# Altium footprint library AMS_LV.PcbLib: 24 footprints (part 1 of 2)
Each footprint in its own frame and in the unit in brackets; x right, y up, seen from the top. Pads: shape width x height; smd on the part's side, far side on the other; paste and mask are expansions set on the pad; w line width, h text height; cw(c..) or ccw(c..) is an arc to the next point about the centre after c.
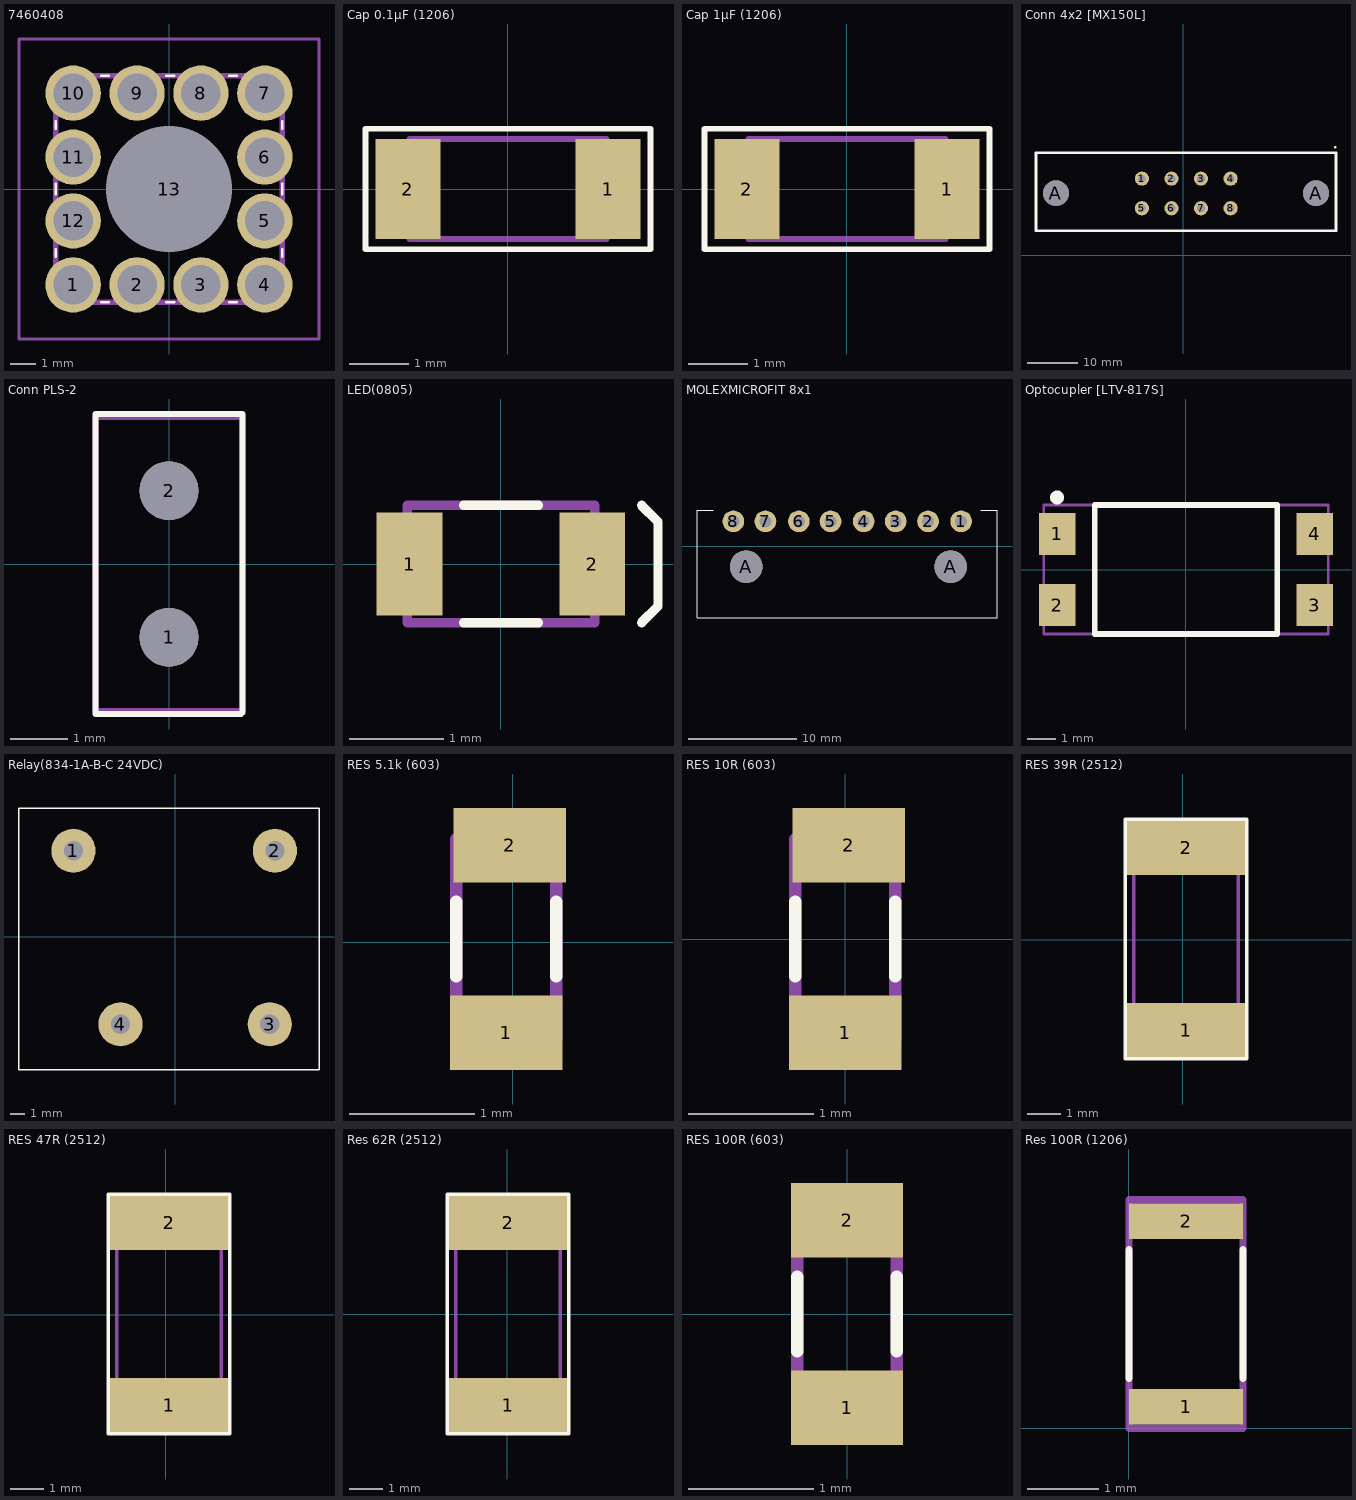
[diagram p0: the footprints below, top view; thin cyan lines are the x and y axes]

## 7460408 [mm]
pads (13):
  round 2.2 hole 1.57: 1(-3.81,-3.81) 2(-1.27,-3.81) 3(1.27,-3.81) 4(3.81,-3.81) 5(3.81,-1.27) 6(3.81,1.27) 7(3.81,3.81) 8(1.27,3.81) 9(-1.27,3.81) 10(-3.81,3.81) 11(-3.81,1.27) 12(-3.81,-1.27)
  round 2.5 hole 5 unplated: 13(0,0)
Top Overlay:
  lines w0.1: -4.5,-2.7 -4.5,-2.4 ; -4.5,-0.2 -4.5,0.2 ; -4.5,2.4 -4.5,2.7 ; -2.7,-4.5 -2.4,-4.5 ; -2.7,4.5 -2.4,4.5 ; -0.1,-4.5 0.2,-4.5 ; -0.1,4.5 0.2,4.5 ; 2.4,-4.5 2.7,-4.5 ; 2.4,4.5 2.7,4.5 ; 4.5,-2.7 4.5,-2.4 ; 4.5,-0.2 4.5,0.2 ; 4.5,2.4 4.5,2.7
Mechanical 13:
  lines w0.2: -4.5,-4.5 -4.5,4.5 4.5,4.5 4.5,-4.5 -4.5,-4.5
Mechanical 15:
  lines w0.1: -5.96,-5.96 -5.96,5.96 5.96,5.96 5.96,-5.96 -5.96,-5.96
3D body "7460408.stp": height 6.1, standoff -5, extent -4.5,-4.5 4.5,4.5

## Cap 0.1µF (1206) [mm]
pads (2):
  rect 1.1x1.7 smd: 1(1.7,0) 2(-1.7,0)
Top Overlay:
  lines w0.1: -2.425,-1.025 -2.425,1.025 2.425,1.025 2.425,-0.175 2.425,-1.025 -2.425,-1.025
Mechanical 13:
  lines w0.1: -1.675,-0.85 1.675,-0.85 1.675,0.85 -1.675,0.85 -1.675,-0.85
3D body "CAPC-1206-T1.0-BN.stp": height 1, standoff 0, extent -1.675,-0.875 1.675,0.875

## Cap 1µF (1206) [mm]
pads (2):
  rect 1.1x1.7 smd: 1(1.7,0) 2(-1.7,0)
Top Overlay:
  lines w0.1: -2.425,-1.025 2.425,-1.025 2.425,-0.175 2.425,1.025 -2.425,1.025 -2.425,-1.025
Mechanical 13:
  lines w0.1: -1.675,-0.85 -1.675,0.85 1.675,0.85 1.675,-0.85 -1.675,-0.85
3D body "CAPC-1206-T1.0-BN.stp": height 1, standoff 0, extent -1.675,-0.875 1.675,0.875

## Conn 4x2 [MX150L] [mm]
pads (10):
  round 2.8 hole 1.5: 1(-8.125,15.125) 2(-2.285,15.125) 3(3.555,15.125) 4(9.4,15.125) 5(-8.125,9.275) 6(-2.285,9.275) 7(3.555,9.275) 8(9.4,9.275)
  round 5.1 hole 5.1: A(-25.1,12.25) A(26.3,12.25)
Top Overlay:
  lines w0.5: -29.05,4.825 30.225,4.825 30.225,20.2 -29.05,20.2 -29.05,4.825 ; 30.075,21.325 30.075,21.325
3D body "194270017.stp": height 32.1, standoff -3.52, extent -28.685,-19.499 29.735,20.15

## Conn PLS-2 [mm]
pads (2):
  round 1.02 hole 1.02: 1(0,-1.27) 2(0,1.27)
Top Overlay:
  lines w0.1: -1.275,-2.6 -1.275,2.6 1.275,2.6 1.275,-2.575 1.25,-2.6 -1.275,-2.6
Mechanical 13:
  lines w0.1: -1.275,-2.55 1.275,-2.55 1.275,2.55 -1.275,2.55 -1.275,-2.55
3D body "User Library-PLS-2-1.STEP": height 5.57, standoff -5.23, extent -1.27,-2.54 1.27,2.54

## LED(0805) [mm]
pads (2):
  rect 0.7x1.1 smd: 1(-0.975,0) 2(0.975,0)
Top Overlay:
  lines w0.1: -0.4,-0.625 0.4,-0.625 ; -0.4,0.625 0.4,0.625 ; 1.5,-0.625 1.675,-0.45 1.675,0.45 1.5,0.625
Mechanical 13:
  lines w0.1: -1,-0.625 1,-0.625 1,0.625 -1,0.625 -1,-0.625
3D body "LED0805.step": height 1.1, standoff 0, extent -1.01,-0.625 1.01,0.625

## MOLEXMICROFIT 8x1 [mm]
pads (10):
  round 2 hole 1.1: 1(33.025,2.275) 2(29.975,2.275) 3(27,2.275) 4(24.05,2.275) 5(21,2.275) 6(18.075,2.275) 7(15,2.275) 8(12.05,2.275)
  round 3 hole 3: A(13.225,-1.9) A(32.05,-1.9)
Top Overlay:
  lines w0.1: 10.175,3.3 8.7,3.3 8.7,-6.6 36.325,-6.6 36.325,3.3 34.85,3.3
3D body "436500800.stp": height 5.64, standoff -3.27, extent 8.705,-6.6 36.345,3.3

## Optocupler [LTV-817S] [mm]
pads (4):
  rect 1.3x1.5 smd: 1(-4.6,1.27) 2(-4.6,-1.27) 3(4.6,-1.27) 4(4.6,1.27)
Top Overlay:
  circle w0.25: c-4.6,2.57 r0.125
  lines w0.2: -3.25,-2.3 3.25,-2.3 3.25,2.3 -3.25,2.3 -3.25,-2.3
Mechanical 13:
  lines w0.1: -5.075,-2.3 5.075,-2.3 5.075,2.3 -5.075,2.3 -5.075,-2.3 ; -3.25,-2.3 3.25,-2.3 3.25,2.3 -3.25,2.3 -3.25,-2.3
3D body "SOP254P1020X385-4L.step": height 3.85, standoff 0, extent -5.08,-2.3 5.08,2.3

## Relay(834-1A-B-C 24VDC) [mm]
pads (4):
  round 3 hole 1.3: 1(-6.925,5.85) 2(6.775,5.85) 3(6.425,-5.95) 4(-3.725,-5.95)
Top Overlay:
  lines w0.1: -10.625,-9.05 -10.625,8.75 9.775,8.75 9.775,-9.05 -10.625,-9.05
3D body: height 10.8, standoff 0, extent -10.575,-9.05 9.725,8.75

## RES 5.1k (603) [mm]
pads (2):
  rect 0.9x0.6 smd: 1(-0.05,-0.725) 2(-0.025,0.775)
Top Overlay:
  lines w0.1: -0.45,-0.275 -0.45,0.325 ; 0.35,-0.275 0.35,0.325
Mechanical 13:
  lines w0.1: -0.45,-0.775 0.35,-0.775 0.35,0.825 -0.45,0.825 -0.45,-0.775
3D body "cr0603-fx-3000elf.stp": height 0.45, standoff 0, extent -0.45,-0.775 0.35,0.825

## RES 10R (603) [mm]
pads (2):
  rect 0.9x0.6 smd: 1(0,-0.75) 2(0.025,0.75)
Top Overlay:
  lines w0.1: -0.4,-0.3 -0.4,0.3 ; 0.4,-0.3 0.4,0.3
Mechanical 13:
  lines w0.1: -0.4,-0.8 0.4,-0.8 0.4,0.8 -0.4,0.8 -0.4,-0.8
3D body "cr0603-fx-3000elf.stp": height 0.45, standoff 0, extent -0.4,-0.8 0.4,0.8

## RES 39R (2512) [mm]
pads (2):
  rect 3.5x1.6 smd: 1(0.1,-2.675) 2(0.1,2.725)
Top Overlay:
  lines w0.1: -1.7,-3.525 1.9,-3.525 1.9,3.575 1.037,3.575 -0.687,3.575 -1.7,3.575 -1.7,-3.525
Mechanical 13:
  lines w0.1: -1.45,3.175 -1.45,3.175 ; -1.45,3.175 1.65,3.175 1.65,-3.125 -1.45,-3.125 -1.45,3.175
3D body "crm2512-jw-201elf.stp": height 0.65, standoff 0.05, extent -1.45,-3.125 1.65,3.175

## RES 47R (2512) [mm]
pads (2):
  rect 3.5x1.6 smd: 1(0.1,-2.675) 2(0.1,2.725)
Top Overlay:
  lines w0.1: -1.7,-3.525 1.9,-3.525 1.9,3.575 1.037,3.575 -0.687,3.575 -1.7,3.575 -1.7,-3.525
Mechanical 13:
  lines w0.1: -1.45,3.175 -1.45,3.175 ; -1.45,3.175 1.65,3.175 1.65,-3.125 -1.45,-3.125 -1.45,3.175
3D body "crm2512-jw-201elf.stp": height 0.65, standoff 0.05, extent -1.45,-3.125 1.65,3.175

## Res 62R (2512) [mm]
pads (2):
  rect 3.5x1.6 smd: 1(0.025,-2.7) 2(0.025,2.7)
Top Overlay:
  lines w0.1: -1.775,-3.55 1.825,-3.55 1.825,3.55 0.962,3.55 -0.762,3.55 -1.775,3.55 -1.775,-3.55
Mechanical 13:
  lines w0.1: -1.525,3.15 -1.525,3.15 ; -1.525,3.15 1.575,3.15 1.575,-3.15 -1.525,-3.15 -1.525,3.15
3D body "crm2512-jw-201elf.stp": height 0.65, standoff 0.05, extent -1.525,-3.15 1.575,3.15

## RES 100R (603) [mm]
pads (2):
  rect 0.9x0.6 smd: 1(0,-0.75) 2(0,0.75)
Top Overlay:
  lines w0.1: -0.4,-0.3 -0.4,0.3 ; 0.4,-0.3 0.4,0.3
Mechanical 13:
  lines w0.1: -0.4,-0.8 0.4,-0.8 0.4,0.8 -0.4,0.8 -0.4,-0.8
3D body "cr0603-fx-3000elf.stp": height 0.45, standoff 0, extent -0.4,-0.8 0.4,0.8

## Res 100R (1206) [mm]
pads (2):
  rect 1.6x0.5 smd: 1(0.8,0.3) 2(0.8,2.9)
Top Overlay:
  lines w0.1: 0,0.7 0,2.5 ; 1.6,0.7 1.6,2.5
Mechanical 13:
  lines w0.1: 0,0 1.6,0 1.6,3.2 0,3.2 0,0
3D body "cr1206.stp": height 0.6, standoff 0, extent 0,0 1.6,3.2